# Altium schematic symbol library ZXMN3A01FTA.Schlib: 1 symbol
Pins are listed as number, name and electrical type; pins without a type are passive.

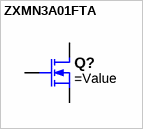
[diagram p0: symbol ZXMN3A01FTA]

## ZXMN3A01FTA
designator Q?
MOSFET N-CH 30V 1.8A SOT23-3
pins: 1 G, 2, 3 D